# Altium schematic symbol library Schlib1.SchLib: 2 symbols
Pins are listed as number, name and electrical type; pins without a type are passive.

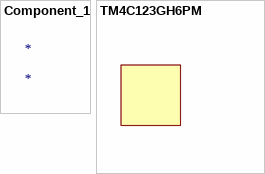
[diagram p0: symbols Component_1 to TM4C123GH6PM]

## Component_1
designator *

## TM4C123GH6PM
designator *